# EAGLE library part HD-A107 (library display-hp)
LED DISPLAY + - 1/2 character, decimal point right
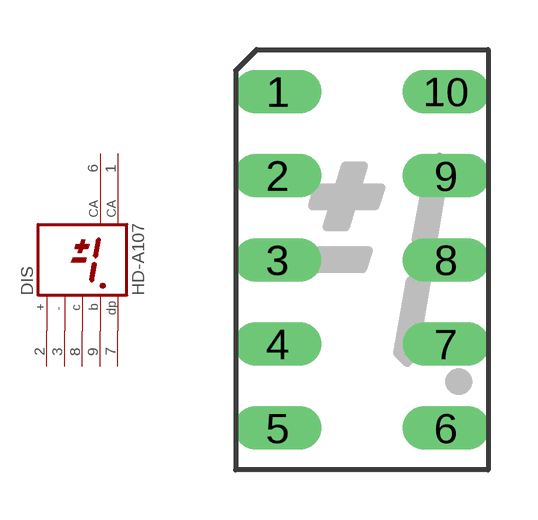
[diagram p11: symbol with the pads of HDSP-C; footprint HDSP-C]

Designator prefix DIS

## HD-A107 (OC_FARNELL: unknown; OC_NEWARK: unknown)  [HDSP-C]
1  CA  pas
2  +  pas
3  -  pas
6  CA  pas
7  DP  pas
8  C  pas
9  B  pas

## Footprint HDSP-C (pad centres in mm)
LED DISPLAY 8-mm + - 1/2 character, decimal point right
drill 0.813 long: 1 -2.54,5.08; 2 -2.54,2.54; 3 -2.54,0; 4 -2.54,-2.54; 5 -2.54,-5.08; 6 2.54,-5.08; 7 2.54,-2.54; 8 2.54,0; 9 2.54,2.54; 10 2.54,5.08